# Altium footprint library Guitar_Multi_Effect_lib.PcbLib: 38 footprints (part 3 of 3)
Each footprint in its own frame and in the unit in brackets; x right, y up, seen from the top. Pads: shape width x height; smd on the part's side, far side on the other; paste and mask are expansions set on the pad; w line width, h text height; cw(c..) or ccw(c..) is an arc to the next point about the centre after c.
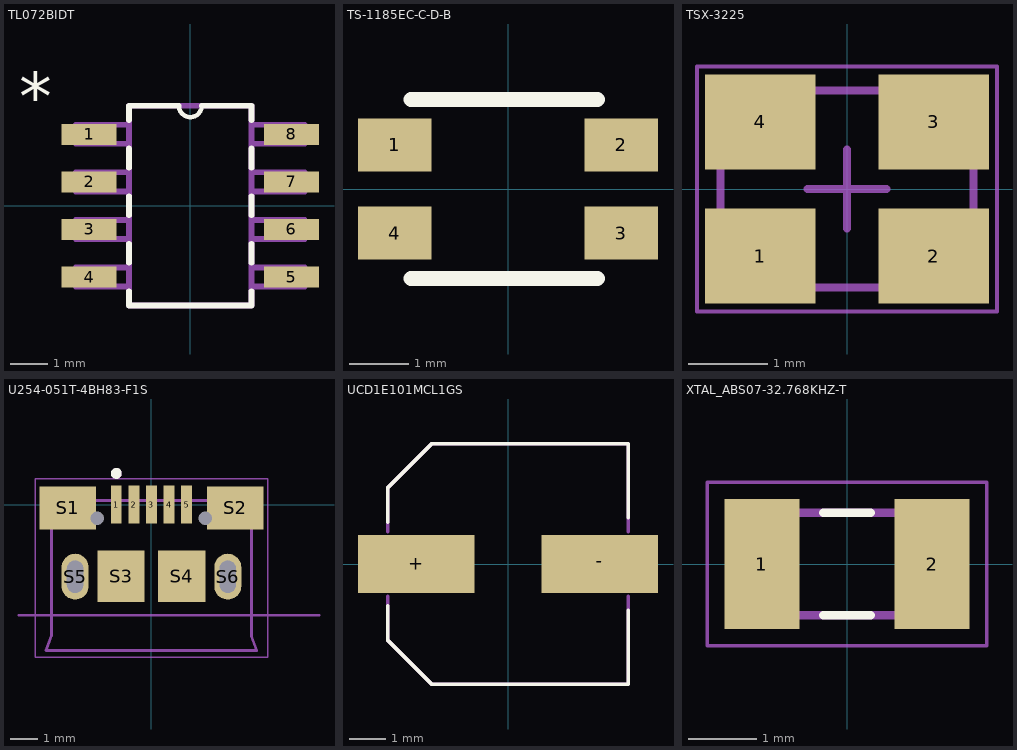
[diagram p2: the footprints below, top view; thin cyan lines are the x and y axes]

## TL072BIDT [mil]
pads (8):
  rect 58x22 smd: 1(-106.3,75) 2(-106.3,25) 3(-106.3,-25) 4(-106.3,-75) 5(106.3,-75) 6(106.3,-25) 7(106.3,25) 8(106.3,75)
Top Overlay:
  lines w4.72: -12,105 ccw(c0,105) 12,105
  lines w6: -64.31,-90 -64.31,-105 64.31,-105 64.31,-90 ; -64.31,-60 -64.31,-40 ; -64.31,-10 -64.31,10 ; -64.31,40 -64.31,60 ; -64.31,90 -64.31,105 -12,105 ; 12,105 64.31,105 64.31,90 ; 64.31,-60 64.31,-40 ; 64.31,-10 64.31,10 ; 64.31,40 64.31,60
  text "*" at -180,90 h50.08
Mechanical 13:
  lines w0: -12,105 ccw(c0,105) 12,105
  lines w5.98: -64.31,-105 64.31,-105 ; -64.31,105 -12,105 ; 12,105 64.31,105
  lines w6: -64.31,-105 -64.31,105 ; -12,105 12,105 ; 64.31,-105 64.31,105 ; -120.31,-85 -64.31,-85 -64.31,-65 -120.31,-65 -120.31,-85 ; -120.31,-35 -64.31,-35 -64.31,-15 -120.31,-15 -120.31,-35 ; -120.31,15 -64.31,15 -64.31,35 -120.31,35 -120.31,15 ; -120.31,65 -64.31,65 -64.31,85 -120.31,85 -120.31,65 ; 64.31,-85 64.31,-65 120.31,-65 120.31,-85 64.31,-85 ; 64.31,-35 64.31,-15 120.31,-15 120.31,-35 64.31,-35 ; 64.31,15 64.31,35 120.31,35 120.31,15 64.31,15 ; 64.31,65 64.31,85 120.31,85 120.31,65 64.31,65
  text "*" at -180,90 h50.03
3D body "SN.STEP": height 68.9, standoff 0, extent -118.11,-96.46 118.11,96.46

## TS-1185EC-C-D-B [mm]
pads (4):
  rect 1.25x0.9 smd: 1(-1.925,0.75) 2(1.925,0.75) 3(1.925,-0.75) 4(-1.925,-0.75)
Top Overlay:
  lines w0.254: -1.651,-1.524 1.524,-1.524 ; -1.651,1.524 1.524,1.524
3D body "ts-1185ec-c-d-b.stp": height 2, standoff 0, extent -2.325,-1.5 2.325,1.5

## TSX-3225 [mm] "SMD, 4-Leads, Body 3.2x2.5mm"
height 0.8
pads (4):
  rect 1.4x1.2 smd: 1(-1.1,-0.85) 2(1.1,-0.85) 3(1.1,0.85) 4(-1.1,0.85)
Mechanical 13:
  lines w0.1: -1.6,-1.25 1.6,-1.25 1.6,1.25 -1.6,1.25 -1.6,-1.25
Mechanical 15:
  lines w0.05: -1.9,-1.55 -1.9,1.55 1.9,1.55 1.9,-1.55 -1.9,-1.55
  lines w0.1: -0.5,0 0.5,0 ; 0,-0.5 0,0.5
3D body: height 0.8, standoff 0, extent -1.6,-1.25 1.6,1.25

## U254-051T-4BH83-F1S [mm]
pads (13):
  rect 0.4x1.4 smd: 1(-1.3,0) 2(-0.65,0) 3(0,0) 4(0.65,0) 5(1.3,0)
  rect 2.1x1.6 smd: S1(-3.1,-0.125) S2(3.1,-0.125)
  rect 1.75x1.9 smd: S3(-1.125,-2.65) S4(1.125,-2.65)
  oval 1x1.7 hole 0.6 slot 1.2 at 90 deg: S5(-2.825,-2.67) S6(2.825,-2.67)
  round 0 hole 0.5: S5(-2,-0.5) S5(2,-0.5)
Top Overlay:
  circle w0.2: c-1.3,1.15 r0.1
Mechanical 13:
  circle w0.2: c-1.3,1.15 r0.1
  lines w0.1: -4.9,-4.1 6.2,-4.1 ; -3.9,-5.4 -3.7,-4.86 -3.7,0.15 3.7,0.15 3.7,-4.86 3.9,-5.4 -3.9,-5.4
  text "PCB EDGE" at 4.416,-4.055 h0.41
Mechanical 15:
  lines w0.05: -4.3,-5.65 -4.3,0.95 4.3,0.95 4.3,-5.65 -4.3,-5.65
3D body "u254-051t-4bh83-f1s.stp": height 2.4, standoff -0.65, extent -3.707,-4.8 3.707,0.65

## UCD1E101MCL1GS [mm] "Aluminum Electrolytic Capacitor, Body 6.60x6.60x5.40mm, IPC Low Density"
height 5.4
pads (2):
  rect 3.2x1.6 smd: +(-2.521,0) -(2.521,0)
Top Overlay:
  lines w0.1: -3.3,-1.143 -3.3,-2.1 -2.1,-3.3 3.3,-3.3 3.3,-1.27 ; -3.3,1.143 -3.3,2.1 -2.1,3.3 3.3,3.3 3.3,1.27
Mechanical 2:
  lines w0.1: -3.3,-0.889 -3.3,-2.1 -2.1,-3.3 3.3,-3.3 3.3,-0.889 ; -3.3,0.889 -3.3,2.1 -2.1,3.3 3.3,3.3 3.3,0.889
3D body "EEEHBC470XAP.STEP": height 7.7, standoff 0, extent -3.65,-3.3 3.65,3.3

## XTAL_ABS07-32.768KHZ-T [mm]
pads (2):
  rect 1.1x1.9 smd: 1(-1.25,0) 2(1.25,0)
Top Overlay:
  lines w0.127: -0.35,-0.75 0.35,-0.75 ; -0.35,0.75 0.35,0.75
Mechanical 13:
  lines w0.127: -1.6,-0.75 1.6,-0.75 1.6,0.75 -1.6,0.75 -1.6,-0.75
Mechanical 15:
  lines w0.05: -2.05,-1.2 2.05,-1.2 2.05,1.2 -2.05,1.2 -2.05,-1.2
3D body "ABS07-32.768KHZ-T--3DModel-STEP-400430.STEP": height 0.89, standoff 0, extent -1.6,-0.749 1.6,0.749